# Altium schematic symbol library Schlib1.SchLib: 42 symbols
Pins are listed as number, name and electrical type; pins without a type are passive.

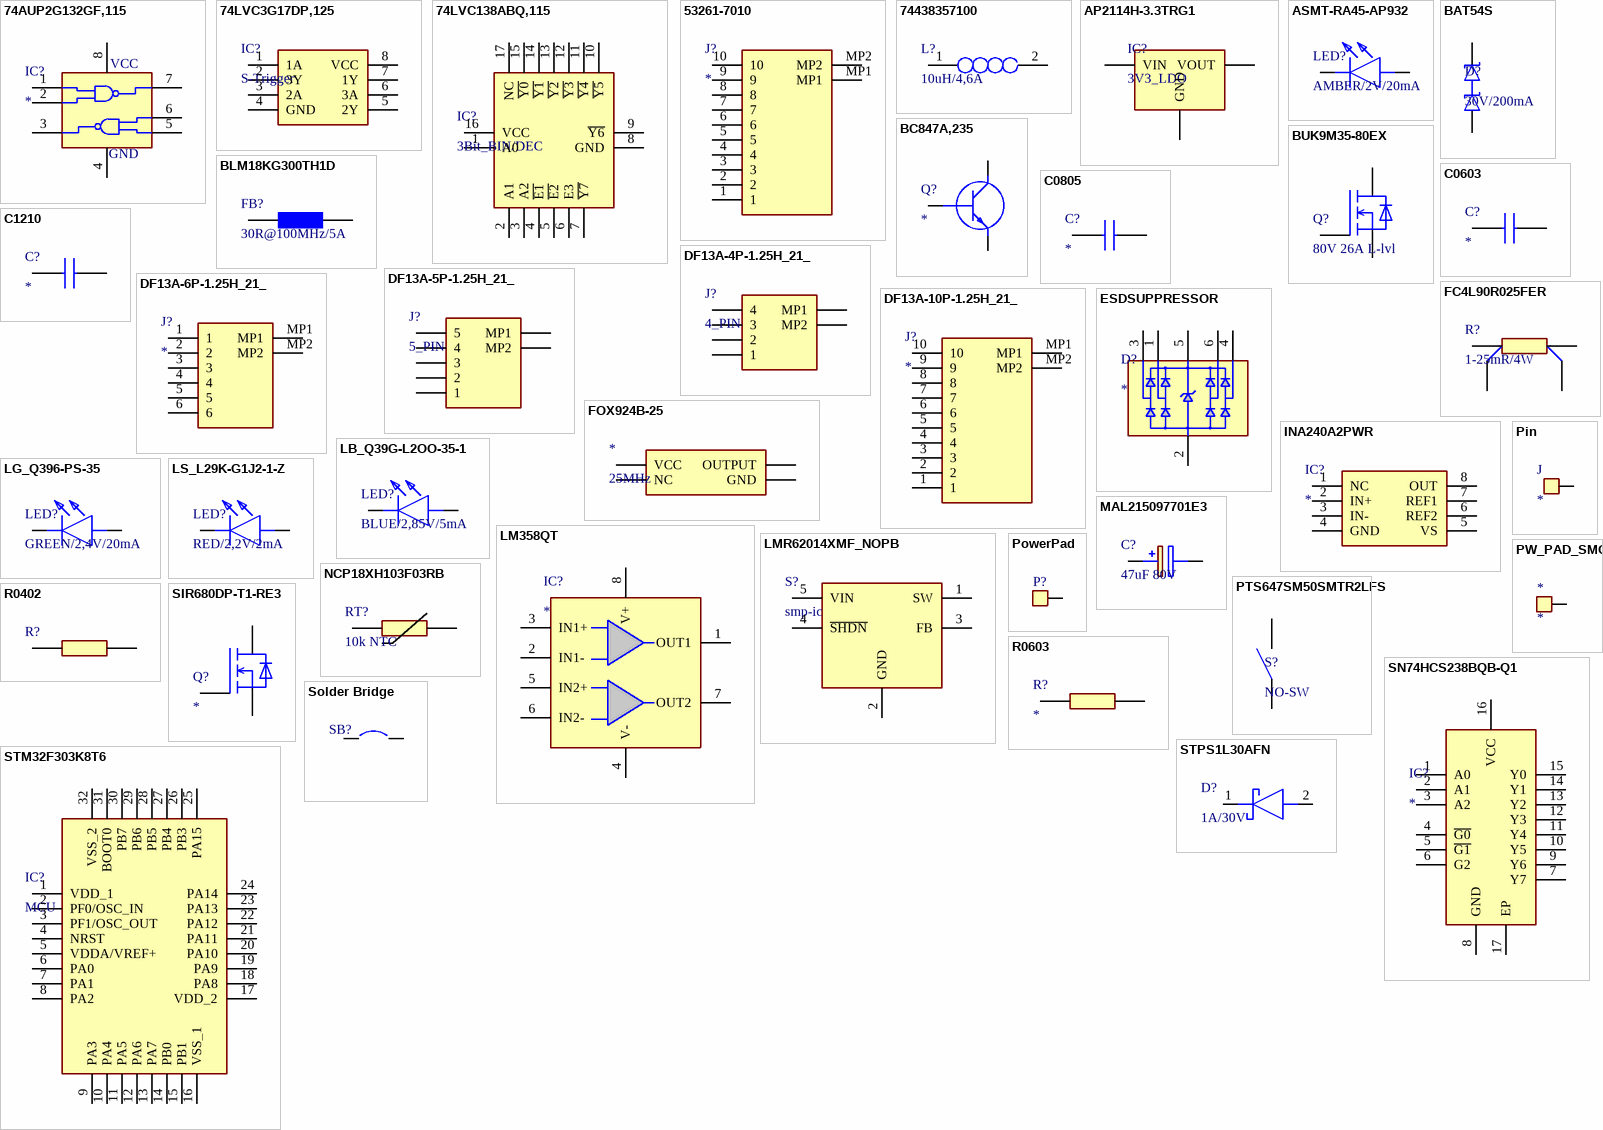
[diagram p0: symbols 74AUP2G132GF,115 to STPS1L30AFN]

## 74AUP2G132GF,115
designator IC?
Dual NAND; Manufacturer_Name: Nexperia; Manufacturer_Part_Number: 74AUP2G132GF,115; Datasheet Link: https://assets.nexperia.com/documents/data-sheet/74AUP2G132.pdf; Mouser Part Number: 771-74AUP2G132GF115; Mouser Price/Stock: https://www.mouser.co.uk/ProductDetail/Nexperia/74AUP2G132GF115?qs=jquClx72t9AzfoBXotQVdg%3D%3D
footprint 74AUP1G74GF115
pins: 1 1A, 2 1B, 3 2Y, 4, 5 2A, 6 2B, 7 1Y, 8
text: VCC; GND

## 74LVC3G17DP,125
designator IC?, comment S-Trigger
3x Schmitt trigger; Manufacturer_Name: Nexperia; Manufacturer_Part_Number: 74LVC3G17DP,125; Datasheet Link: https://assets.nexperia.com/documents/data-sheet/74LVC3G17.pdf; Height: 1.1mm; Mouser Part Number: 771-LVC3G17DP125; Mouser Price/Stock: https://www.mouser.co.uk/ProductDetail/Nexperia/74LVC3G17DP125?qs=me8TqzrmIYUUngWcw0uHGA%3D%3D; Arrow Part Number: 74LVC3G17DP,125; Arrow Price/Stock: https://www.arrow.com/en/products/74lvc3g17dp125/nexperia
footprint SOP65P400X110-8N
pins: 1 1A, 2 3Y, 3 2A, 4 GND, 5 2Y, 6 3A, 7 1Y, 8 VCC

## 74LVC138ABQ,115
designator IC?, comment 3Bit_BIN/DEC
3Bit Bin to Dec decoder; Manufacturer_Name: Nexperia; Manufacturer_Part_Number: 74LVC138ABQ,115; Datasheet Link: https://assets.nexperia.com/documents/data-sheet/74LVC138A.pdf; Arrow Part Number: 74LVC138ABQ,115; Arrow Price/Stock: https://www.arrow.com/en/products/74lvc138abq115/nexperia; Mouser Part Number: 771-LVC138ABQ115; Mouser Price/Stock: https://www.mouser.co.uk/ProductDetail/Nexperia/74LVC138ABQ115?qs=me8TqzrmIYUqHGpwzmLq4w%3D%3D
footprint 74HCT595BQ115
pins: 1 A0, 2 A1, 3 A2, 4 ~{E1}, 5 ~{E2}, 6 E3, 7 ~{Y7}, 8 GND, 9 ~{Y6}, 10 ~{Y5}, 11 ~{Y4}, 12 ~{Y3}, 13 ~{Y2}, 14 ~{Y1}, 15 ~{Y0}, 16 VCC, 17 NC

## 53261-7010
designator J?
10P microblade connector; Manufacturer_Name: Molex; Manufacturer_Part_Number: 53261-7010; Datasheet Link: https://www.molex.com/pdm_docs/sd/532617010_sd.pdf; Height: 3.4mm; Mouser Part Number: 538-53261-7010; Mouser Price/Stock: https://www.mouser.co.uk/ProductDetail/Molex/53261-7010?qs=0lSvoLzn4L9PBaWLUsof8Q%3D%3D
footprint 532617010
pins: 1, 2, 3, 4, 5, 6, 7, 8, 9, 10, MP1, MP2

## 74438357100
designator L?, comment 10uH/4,6A
Inductor; Manufacturer_Name: Wurth Elektronik; Manufacturer_Part_Number: 74438357100; Datasheet Link: https://katalog.we-online.com/pbs/datasheet/74438357100.pdf; Height: 4mm; Mouser Part Number: 710-74438357100; Mouser Price/Stock: https://www.mouser.co.uk/ProductDetail/Wurth-Elektronik/74438357100?qs=AQlKX63v8RsOZwIYXNHv7w%3D%3D
footprint 74438357100
pins: 1, 2

## AP2114H-3.3TRG1
designator IC?, comment 3V3_LDO
3V3 LDO; Manufacturer_Name: Diodes Inc.; Manufacturer_Part_Number: AP2114H-3.3TRG1; Datasheet Link: http://uk.rs-online.com/web/p/products/8283528; Height: 1.8mm; Arrow Part Number: AP2114H-3.3TRG1; Arrow Price/Stock: https://www.arrow.com/en/products/ap2114h-3.3trg1/diodes-incorporated; Mouser Part Number: 621-AP2114H-3.3TRG1; Mouser Price/Stock: https://www.mouser.co.uk/ProductDetail/Diodes-Incorporated/AP2114H-33TRG1?qs=x6A8l6qLYDDSG%2FfwzcsOhw%3D%3D
footprint SOT230P700X180-4N
pins: 1 GND, 2,4 VOUT, 3 VIN

## ASMT-RA45-AP932
designator LED?, comment AMBER/2V/20mA
LED Amber; Manufacturer_Name: Avago Technologies; Manufacturer_Part_Number: ASMT-RA45-AP932; Datasheet Link: https://docs.broadcom.com/docs/AV02-0378EN; Height: 0.55mm; Mouser Part Number: 630-ASMT-RA45-AP932; Mouser Price/Stock: https://www.mouser.co.uk/ProductDetail/Broadcom-Avago/ASMT-RA45-AP932?qs=7zQgkplsu%2FO5gZneoB42ug%3D%3D
footprint LEDC1608X55N
pins: 1 K, 2 A

## BAT54S
designator D?, comment 30V/200mA
Schottky Diode; Manufacturer_Name: Rectron; Manufacturer_Part_Number: BAT54S; Datasheet Link: https://www.rectron.com/data_sheets/bat54s.pdf; Height: 1.1mm; Mouser Part Number: 583-BAT54S; Mouser Price/Stock: https://www.mouser.co.uk/ProductDetail/Rectron/BAT54S?qs=7pEAo90IqNGRiqD7TkybWA%3D%3D; Arrow Part Number: BAT54S; Arrow Price/Stock: https://www.arrow.com/en/products/bat54s/rectron
footprint SOT95P240X110-3N
pins: 1 A, 2 K, 3 A/K

## BC847A,235
designator Q?
Transistor BJT NPN; Manufacturer_Name: Nexperia; Manufacturer_Part_Number: BC847A,235; Datasheet Link: http://assets.nexperia.com/documents/data-sheet/BC847_SER.pdf; Height: 1.1mm; Mouser Part Number: 771-BC847A235; Mouser Price/Stock: https://www.mouser.co.uk/ProductDetail/Nexperia/BC847A235?qs=me8TqzrmIYWeD%252BqPzufrRA%3D%3D; Arrow Part Number: BC847A,235; Arrow Price/Stock: https://www.arrow.com/en/products/bc847a235/nexperia
footprint SOT95P230X110-3N
pins: 1 B, 2 E, 3 C

## BLM18KG300TH1D
designator FB?, comment 30R@100MHz/5A
Ferrite Bead; Manufacturer_Name: Murata Electronics; Manufacturer_Part_Number: BLM18KG300TH1D; Datasheet Link: https://www.murata.com/en-us/products/productdetail?partno=BLM18KG300TH1%23; Height: 0.75mm; Arrow Part Number: BLM18KG300TH1D; Arrow Price/Stock: https://www.arrow.com/en/products/blm18kg300th1d/murata-manufacturing; Mouser Part Number: 81-BLM18KG300TH1D; Mouser Price/Stock: https://www.mouser.com/Search/Refine.aspx?Keyword=81-BLM18KG300TH1D
footprint BLM18KG101TH1D
pins: 1, 2

## BUK9M35-80EX
designator Q?, comment 80V 26A L-lvl
MOSFET (N-Channel); Manufacturer_Name: Nexperia; Manufacturer_Part_Number: BUK9M35-80EX; Datasheet Link: https://assets.nexperia.com/documents/data-sheet/BUK9M35-80E.pdf; Mouser Part Number: 771-BUK9M35-80EX; Mouser Price/Stock: https://www.mouser.com/Search/Refine.aspx?Keyword=771-BUK9M35-80EX; Arrow Part Number: BUK9M35-80EX; Arrow Price/Stock: https://www.arrow.com/en/products/buk9m35-80ex/nexperia
footprint BUK7M1260E
pins: 1,2,3 S, 4 G, 5,6,7,8,9 D

## C0603
designator C?
Capacitor
footprint CAPC1608X97N
pins: 1, 2

## C0805
designator C?
Capacitor; Mouser Price/Stock: https://www.mouser.co.uk/ProductDetail/AVX/08051C474KAT2A?qs=%2FjdEcI0p95Mz%2FN5KbrGN6Q%3D%3D
footprint CAPC2012X140N
pins: 1, 2

## C1210
designator C?
Capacitor
footprint CAPC3225X280N
pins: 1, 2

## DF13A-4P-1.25H_21_
designator J?, comment 4_PIN
4 Pin DF13 Connector; Manufacturer_Name: Hirose; Manufacturer_Part_Number: DF13A-4P-1.25H(21); Datasheet Link: https://componentsearchengine.com/Datasheets/1/DF13A-4P-1.25H(21).pdf; Height: 3.6mm; Mouser Part Number: 798-DF13A4P125H21; Mouser Price/Stock: https://www.mouser.co.uk/ProductDetail/Hirose-Connector/DF13A-4P-125H21/?qs=XQjbzJWzFPXWzMShI70F0w%3D%3D
footprint DF13A4P125H21
pins: 1, 2, 3, 4, MP1, MP2

## DF13A-5P-1.25H_21_
designator J?, comment 5_PIN
5 Pin DF13 Connector; Manufacturer_Name: Hirose; Manufacturer_Part_Number: DF13A-5P-1.25H(21); Datasheet Link: https://componentsearchengine.com/Datasheets/1/DF13A-5P-1.25H(21).pdf; Height: 3.75mm; Mouser Part Number: 798-DF13A5P125H21; Mouser Price/Stock: https://www.mouser.co.uk/ProductDetail/Hirose-Connector/DF13A-5P-125H21?qs=XQjbzJWzFPWvJsE2o%252B4Q8Q%3D%3D
footprint DF13A5P125H21
pins: 1, 2, 3, 4, 5, MP1, MP2

## DF13A-6P-1.25H_21_
designator J?
6 Pin DF13 Connector; Manufacturer_Name: Hirose; Manufacturer_Part_Number: DF13A-6P-1.25H(21); Datasheet Link: https://www.hirose.com/product/download/?distributor=digikey&type=2d&lang=en&num=DF13A-6P-1.25H(21); Height: 3.75mm; Mouser Part Number: 798-DF13A6P125H21; Mouser Price/Stock: https://www.mouser.co.uk/ProductDetail/Hirose-Connector/DF13A-6P-125H21?qs=XQjbzJWzFPXnreVi%252BPl0Lg%3D%3D; Arrow Part Number: DF13A-6P-1.25H(21); Arrow Price/Stock: https://www.arrow.com/en/products/df13a-6p-1.25h-21/hirose-electric
footprint DF13A6P125H21
pins: 1, 2, 3, 4, 5, 6, MP1, MP2

## DF13A-10P-1.25H_21_
designator J?
10Pin DF13 Connector; Manufacturer_Name: Hirose; Manufacturer_Part_Number: DF13A-10P-1.25H(21); Datasheet Link: https://datasheet.datasheetarchive.com/originals/dk/DKDS-30/590349.pdf; Height: 3.75mm; Mouser Part Number: 798-DF13A10P125H21; Mouser Price/Stock: https://www.mouser.co.uk/ProductDetail/Hirose-Connector/DF13A-10P-125H21?qs=XQjbzJWzFPV7pEVOeMnY%2FQ%3D%3D; Arrow Part Number: DF13A-10P-1.25H(21); Arrow Price/Stock: https://www.arrow.com/en/products/df13a-10p-1.25h-21/hirose-electric
footprint DF13A10P125H21
pins: 1, 2, 3, 4, 5, 6, 7, 8, 9, 10, MP1, MP2

## ESDSUPPRESSOR
designator D?
TVS Diode (Uni-directional); Height: 0.6mm; Manufacturer_Name: *; Manufacturer_Part_Number: *; Mauser_Part_Number: *; Datasheet Link: *
footprint SOT23-6
pins: 1 CH4, 2 GND, 3 CH1, 4 CH3, 5 VDD, 6 CH2

## FC4L90R025FER
designator R?, comment 1-25mR/4W
Resistor; Manufacturer_Name: Ohmite; Manufacturer_Part_Number: FC4L90R025FER; Datasheet Link: https://componentsearchengine.com/Datasheets/1/FC4L90R025FER.pdf; Height: 0.8mm; Mouser Part Number: 588-FC4L90R025FER; Mouser Price/Stock: https://www.mouser.co.uk/ProductDetail/Ohmite/FC4L90R025FER?qs=lc2O%252BfHJPVauiFLZwCqH8Q%3D%3D
footprint FC4L90R025FER
pins: 1 K1, 2 P1, 3 P2, 4 K2

## FOX924B-25
designator *, comment 25MHz
25Mhz Oscillator; Manufacturer_Name: FOX; Manufacturer_Part_Number: FOX924B-25
footprint FOX924B25
pins: 1 NC, 2 GND, 3 OUTPUT, 4 VCC

## INA240A2PWR
designator IC?
Current shunt amp; Manufacturer_Name: Texas Instruments; Manufacturer_Part_Number: INA240A4PWR; Datasheet Link: http://www.ti.com/lit/ds/symlink/ina240.pdf; Height: 1.2mm; Mouser Part Number: 595-INA240A4PWR; Mouser Price/Stock: https://www.mouser.co.uk/ProductDetail/Texas-Instruments/INA240A4PWR?qs=aVyJF2WnouQ31PAZ9p0r8w%3D%3D; Arrow Part Number: INA240A4PWR; Arrow Price/Stock: https://www.arrow.com/en/products/ina240a4pwr/texas-instruments?region=nac
footprint SOP65P640X120-8N
pins: 1 NC, 2 IN+, 3 IN-, 4 GND (power), 5 VS (power), 6 REF2, 7 REF1, 8 OUT

## LB_Q39G-L2OO-35-1
designator LED?, comment BLUE/2,85V/5mA
LED Blue; Manufacturer_Name: OSRAM; Manufacturer_Part_Number: LB Q39G-L2OO-35-1; Datasheet Link: http://www.mouser.com/ds/2/311/LB Q39G - CHIPLED 0603-553388.pdf; Height: 0.4mm; Mouser Part Number: 720-LBQ39GL2N2351; Mouser Price/Stock: https://www.mouser.co.uk/ProductDetail/OSRAM-Opto-Semiconductors/LB-Q39G-L2OO-35-1?qs=74fRo9GAWsxvZBH6a5xY%252BA%3D%3D; Arrow Part Number: LB Q39G-L2OO-35-1; Arrow Price/Stock: https://www.arrow.com/en/products/lbq39g-l2oo-35-1/osram-opto-semiconductors
footprint LEDC1608X40N
pins: 1 K, 2 A

## LG_Q396-PS-35
designator LED?, comment GREEN/2,4V/20mA
LED Green; Manufacturer_Name: OSRAM; Manufacturer_Part_Number: LG Q396-PS-35; Datasheet Link: https://mouser.componentsearchengine.com/Datasheets/2/LG%20Q396-PS-35.pdf; Height: 0.4mm; Mouser Part Number: 720-LGQ396A3964; Mouser Price/Stock: https://www.mouser.co.uk/ProductDetail/OSRAM-Opto-Semiconductors/LG-Q396-PS-35?qs=xC%252BE9h5iuX5%252BCocujXxOpw%3D%3D; Arrow Part Number: LG Q396-PS-35; Arrow Price/Stock: https://www.arrow.com/en/products/lgq396-ps-35/osram-opto-semiconductors
footprint LGQ396PS35
pins: 1 K, 2 A

## LM358QT
designator IC?
Le' Megaslow 358; Manufacturer_Name: STMicroelectronics; Manufacturer_Part_Number: LM358QT; Datasheet Link: https://componentsearchengine.com/Datasheets/1/LM358QT.pdf; Height: 0.6mm; Mouser Part Number: 511-LM358QT; Mouser Price/Stock: https://www.mouser.co.uk/ProductDetail/STMicroelectronics/LM358QT?qs=GkDVaEP5dcs4xwTXUtddog%3D%3D; Arrow Part Number: LM358QT; Arrow Price/Stock: https://www.arrow.com/en/products/lm358qt/stmicroelectronics?region=nac
footprint SON50P200X200X60-9N-D
pins: 1 OUT1, 2 IN1-, 3 IN1+, 4 V-, 5 IN2+, 6 IN2-, 7 OUT2, 8 V+

## LMR62014XMF_NOPB
designator S?, comment smp-ic
SMPS IC; Manufacturer_Name: Texas Instruments; Manufacturer_Part_Number: LMR62014XMF/NOPB; Datasheet Link: http://www.ti.com/lit/gpn/lmr62014; Height: 1.45mm; Mouser Part Number: 926-LMR62014XMF/NOPB; Mouser Price/Stock: https://www.mouser.co.uk/ProductDetail/Texas-Instruments/LMR62014XMF-NOPB?qs=cN01o9PeIQtA177Vn0GXdQ%3D%3D; Arrow Part Number: LMR62014XMF/NOPB; Arrow Price/Stock: https://www.arrow.com/en/products/lmr62014xmfnopb/texas-instruments
footprint SOT95P280X145-5N
pins: 1 SW, 2 GND, 3 FB, 4 ~{SHDN}, 5 VIN

## LS_L29K-G1J2-1-Z
designator LED?, comment RED/2,2V/2mA
LED Red; Manufacturer_Name: OSRAM; Manufacturer_Part_Number: LS L29K-G1J2-1-Z; Datasheet Link: https://dammedia.osram.info/media/resource/hires/osram-dam-5662679/LS%20L29K_EN.pdf; Height: 0.67mm; Mouser Part Number: 720-LSL29K-G1J2-1-Z; Mouser Price/Stock: https://www.mouser.co.uk/ProductDetail/OSRAM-Opto-Semiconductors/LS-L29K-G1J2-1-Z?qs=nTDll3UaDK6mUW9LNPY0Mw%3D%3D
footprint LSL29KG1J21Z
pins: 1 K, 2 A

## MAL215097701E3
designator C?, comment 47uF 80V
ELKO 10x10x10; Manufacturer_Name: Vishay; Manufacturer_Part_Number: MAL215097701E3; Datasheet Link: https://www.vishay.com/docs/28395/150crz.pdf; Height: 10.5mm; Mouser Part Number: 594-MAL215097701E3; Mouser Price/Stock: https://www.mouser.co.uk/ProductDetail/Vishay-BC-Components/MAL215097701E3?qs=bKenfurwlsnF8zBng3kToA%3D%3D
footprint CAPAE1050X1050N
pins: 1 +, 2 -

## NCP18XH103F03RB
designator RT?, comment 10k NTC
Thermistor; Manufacturer_Name: Murata Electronics; Manufacturer_Part_Number: NCP18XH103F03RB; Datasheet Link: https://componentsearchengine.com/Datasheets/2/NCP18XH103F03RB.pdf; Height: 0.95mm; Mouser Part Number: 81-NCP18XH103F03RB; Mouser Price/Stock: https://www.mouser.co.uk/ProductDetail/Murata-Electronics/NCP18XH103F03RB?qs=k3rQb2PKXqkF9YvF09qsvw%3D%3D; Arrow Part Number: NCP18XH103F03RB; Arrow Price/Stock: https://www.arrow.com/en/products/ncp18xh103f03rb/murata-manufacturing?region=europe
footprint THRMC1608X95N
pins: 1, 2

## Pin
designator J
footprint Pin
pins: 1

## PowerPad
designator P?  (value not drawn)
footprint POWER_PAD
pins: 1

## PTS647SM50SMTR2LFS
designator S?, comment NO-SW
Switch; Manufacturer_Name: C & K COMPONENTS; Manufacturer_Part_Number: PTS647SM50SMTR2LFS; Datasheet Link: https://www.ckswitches.com/media/2567/pts647.pdf; Height: 5.25mm; Mouser Part Number: 611-PTS647SM50SMTR2L; Mouser Price/Stock: https://www.mouser.co.uk/ProductDetail/CK/PTS647SM50SMTR2LFS?qs=PqoDHHvF64%252BjK4ZB7f42kw%3D%3D; Arrow Part Number: PTS647SM50SMTR2LFS; Arrow Price/Stock: https://www.arrow.com/en/products/pts-647-sm50-smtr2-lfs/ck?region=nac
footprint PTS647SM50SMTR2LFS
pins: 1,2 1, 3,4 2

## PW_PAD_SMOL
designator *
footprint PW_PAD_SMOL
pins: 1

## R0402
designator R?  (value not drawn)
Resistor; Height: 0.4mm
footprint RESC1005X40N
pins: 1, 2

## R0603
designator R?
Resistor
footprint RESC1608X55N
pins: 1, 2

## SIR680DP-T1-RE3
designator Q?
MOSFET (N-Channel); Manufacturer_Name: Vishay; Manufacturer_Part_Number: SIR680DP-T1-RE3; Datasheet Link: https://www.vishay.com/docs/75267/sir680dp.pdf; Height: 1.12mm; Mouser Part Number: 78-SIR680DP-T1-RE3; Mouser Price/Stock: https://www.mouser.co.uk/ProductDetail/Vishay-Siliconix/SIR680DP-T1-RE3?qs=Mv7BduZupUi1ZFscSbHz5g%3D%3D; Arrow Part Number: SIR680DP-T1-RE3; Arrow Price/Stock: https://www.arrow.com/en/products/sir680dp-t1-re3/vishay
footprint SI7141DPT1GE3
pins: 1,2,3 S, 4 G, 11,10,9,8,7,6,5 D

## SN74HCS238BQB-Q1
designator IC?
3bit bin to dec noninverting; Manufacturer_Name: Texas Instruments; Manufacturer_Part_Number: SN74HCS238QBQBRQ1; Datasheet Link: https://www.ti.com/lit/gpn/SN74HCS238-Q1; Height: 0.8mm; Mouser Part Number: 595-N74HCS238QBQBRQ1
footprint SN74HCS238BQB-Q1
pins: 1 A0, 2 A1, 3 A2, 4 ~{G0}, 5 ~{G1}, 6 G2, 7 Y7, 8 GND, 9 Y6, 10 Y5, 11 Y4, 12 Y3, 13 Y2, 14 Y1, 15 Y0, 16 VCC, 17 EP

## Solder Bridge
designator SB?
Solder Bridge; Internal_Part_Number: MCD-00071; Part_Type: Mechanical; Manufacturer_Part_Number: RC0603JR-070RL; Manufacturer: YAGEO; Provided_By: SUBCO; ECCN_US: n/a; ECCN_EU: n/a; Status: Released; Package: SB0603; ComponentLink1Description: Datasheet; ComponentLink1URL: http://tunmcdsvn.tun.st.com/Component_Datasheet_Library/Trunk/Resistors/Yageo_Resistor_RC0603-series
footprint SOLDER-BRIDGE_R0603-0R
footprint SB0402
pins: 1, 2

## STM32F303K8T6
designator IC?, comment MCU
Manufacturer_Name: STMicroelectronics; Manufacturer_Part_Number: STM32F303K8T6; Datasheet Link: http://www.mouser.com/ds/2/389/stm32f303c6-956234.pdf; Height: 1.6mm; Arrow Part Number: STM32F303K8T6; Arrow Price/Stock: https://www.arrow.com/en/products/stm32f303k8t6/stmicroelectronics; Mouser Part Number: 511-STM32F303K8T6; Mouser Price/Stock: https://www.mouser.co.uk/ProductDetail/STMicroelectronics/STM32F303K8T6?qs=9MuLHSkliconZih9IS1ieg%3D%3D
footprint QFP80P900X900X160-32N
pins: 1 VDD_1, 2 PF0/OSC_IN, 3 PF1/OSC_OUT, 4 NRST, 5 VDDA/VREF+, 6 PA0, 7 PA1, 8 PA2, 9 PA3, 10 PA4, 11 PA5, 12 PA6, 13 PA7, 14 PB0, 15 PB1, 16 VSS_1, 17 VDD_2, 18 PA8, 19 PA9, 20 PA10, 21 PA11, 22 PA12, 23 PA13, 24 PA14, 25 PA15, 26 PB3, 27 PB4, 28 PB5, 29 PB6, 30 PB7, 31 BOOT0, 32 VSS_2

## STPS1L30AFN
designator D?, comment 1A/30V
Schottky Diode; Manufacturer_Name: STMicroelectronics; Manufacturer_Part_Number: STPS1L30AFN; Datasheet Link: https://4donline.ihs.com/images/VipMasterIC/IC/SGST/SGST-S-A0009026271/SGST-S-A0009026271-1.pdf?hkey=6D3A4C79FDBF58556ACFDE234799DDF0; Height: 1.1mm; Mouser Part Number: 511-STPS1L30AFN; Mouser Price/Stock: https://www.mouser.co.uk/ProductDetail/STMicroelectronics/STPS1L30AFN?qs=Cb2nCFKsA8pl%252BsoFM6iGfw%3D%3D; Arrow Part Number: STPS1L30AFN; Arrow Price/Stock: https://www.arrow.com/en/products/stps1l30afn/stmicroelectronics?region=nac
footprint SODFL5226X110N
pins: 1 K, 2 A

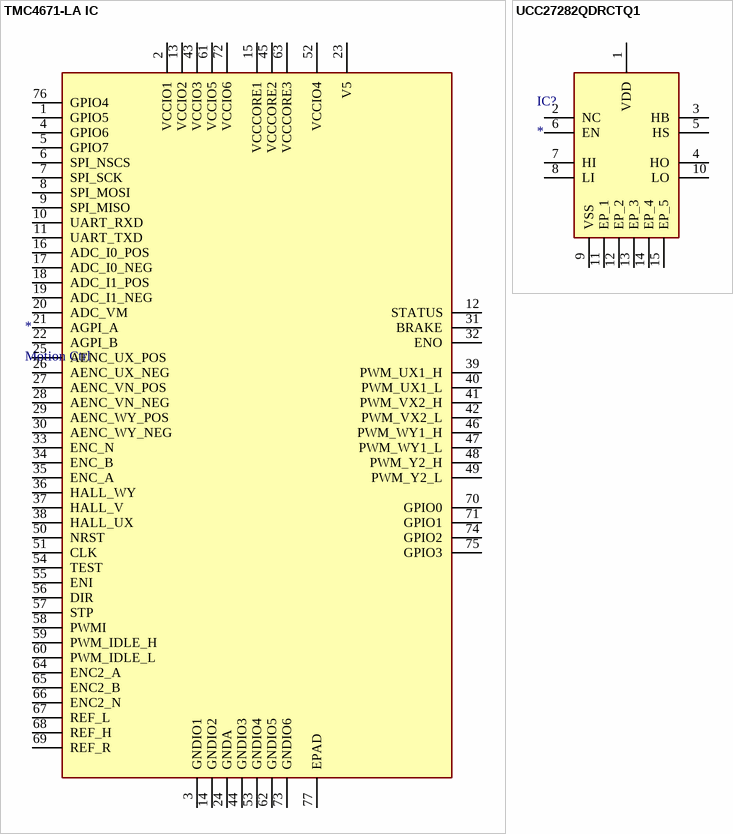
[diagram p1: symbols TMC4671-LA IC to UCC27282QDRCTQ1]

## TMC4671-LA IC
designator *, comment Motion Ctrl
FOC Motion Controller; Manufacturer_Name: Trinamic; Manufacturer_Part_Number: TMC4671-LA
footprint QFN40P1050X650X90-77N
pins: 1 GPIO5, 2 VCCIO1, 3 GNDIO1, 4 GPIO6, 5 GPIO7, 6 SPI_NSCS, 7 SPI_SCK, 8 SPI_MOSI, 9 SPI_MISO, 10 UART_RXD, 11 UART_TXD, 12 STATUS, 13 VCCIO2, 14 GNDIO2, 15 VCCCORE1, 16 ADC_I0_POS, 17 ADC_I0_NEG, 18 ADC_I1_POS, 19 ADC_I1_NEG, 20 ADC_VM, 21 AGPI_A, 22 AGPI_B, 23 V5, 24 GNDA, 25 AENC_UX_POS, 26 AENC_UX_NEG, 27 AENC_VN_POS, 28 AENC_VN_NEG, 29 AENC_WY_POS, 30 AENC_WY_NEG, 31 BRAKE, 32 ENO, 33 ENC_N, 34 ENC_B, 35 ENC_A, 36 HALL_WY, 37 HALL_V, 38 HALL_UX, 39 PWM_UX1_H, 40 PWM_UX1_L, 41 PWM_VX2_H, 42 PWM_VX2_L, 43 VCCIO3, 44 GNDIO3, 45 VCCCORE2, 46 PWM_WY1_H, 47 PWM_WY1_L, 48 PWM_Y2_H, 49 PWM_Y2_L, 50 NRST, 51 CLK, 52 VCCIO4, 53 GNDIO4, 54 TEST, 55 ENI, 56 DIR, 57 STP, 58 PWMI, 59 PWM_IDLE_H, 60 PWM_IDLE_L, 61 VCCIO5, 62 GNDIO5, 63 VCCCORE3, 64 ENC2_A, 65 ENC2_B, 66 ENC2_N, 67 REF_L, 68 REF_H, 69 REF_R, 70 GPIO0, 71 GPIO1, 72 VCCIO6, 73 GNDIO6, 74 GPIO2, 75 GPIO3, 76 GPIO4, 77 EPAD

## UCC27282QDRCTQ1
designator IC?
Halfbridge driver IC; Manufacturer_Name: Texas Instruments; Manufacturer_Part_Number: UCC27282QDRCTQ1; Datasheet Link: https://www.ti.com/lit/ds/symlink/ucc27282.pdf?ts=1615361050656&ref_url=https%253A%252F%252Fwww.ti.com%252Fstore%252Fti%252Fen%252Fp%252Fproduct%252F%253Fp%253DUCC27282DRCR; Height: 1mm; Mouser Part Number: 595-UCC27282DRCR; Mouser Price/Stock: https://www.mouser.co.uk/ProductDetail/Texas-Instruments/UCC27282DRCR?qs=PqoDHHvF64%252BEqc2WJXKXkQ%3D%3D; Arrow Part Number: UCC27282DRCR; Arrow Price/Stock: https://www.arrow.com/en/products/ucc27282drcr/texas-instruments?region=nac
footprint UCC27282DRCR
pins: 1 VDD, 2 NC, 3 HB, 4 HO, 5 HS, 6 EN, 7 HI, 8 LI, 9 VSS, 10 LO, 11 EP_1, 12 EP_2, 13 EP_3, 14 EP_4, 15 EP_5